# EAGLE library part DAC7573 (library NewSDR)
Quad, 12-bit, Low-power, Voltage Output I2C Interface DAC
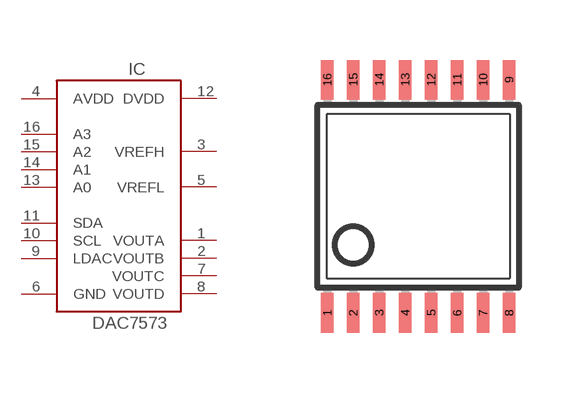
[diagram p75: symbol with the pads of TSSOP16B; footprint TSSOP16B]

Designator prefix IC

## DAC7573  [TSSOP16B]
1  VOUTA  out
2  VOUTB  out
3  VREFH  pwr
4  AVDD  pwr
5  VREFL  pwr
6  GND  pwr
7  VOUTC  out
8  VOUTD  out
9  LDAC  in
10  SCL
11  SDA
12  DVDD  pwr
13  A0  in
14  A1  in
15  A2  in
16  A3  in

## Footprint TSSOP16B (pad centres in mm)
smd 0.305 x 0.991: 1 -2.275,-2.918; 2 -1.625,-2.918; 3 -0.975,-2.918; 4 -0.325,-2.918; 5 0.325,-2.918; 6 0.975,-2.918; 7 1.625,-2.918; 8 2.275,-2.918; 9 2.275,2.918; 10 1.625,2.918; 11 0.975,2.918; 12 0.325,2.918; 13 -0.325,2.918; 14 -0.975,2.918; 15 -1.625,2.918; 16 -2.275,2.918